# Altium schematic symbol library POWER_CONTROL.SchLib: 5 symbols
Pins are listed as number, name and electrical type; pins without a type are passive.

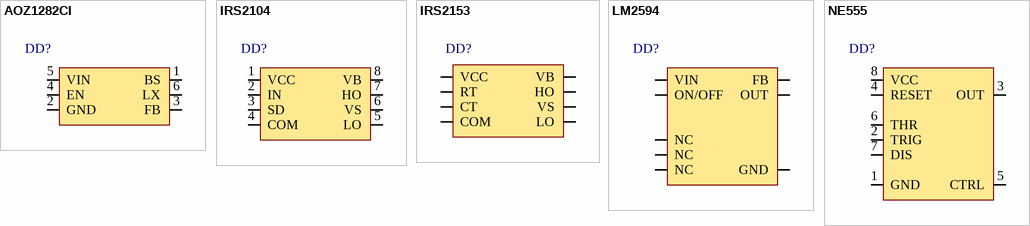
[diagram p0: symbols AOZ1282CI to NE555]

## AOZ1282CI
designator DD?
footprint SOT23-6ЗPIN (AOZ128) (SOT23, 6-Leads, Body 2,90x2,80mm, Pitch 0,95mm, IPC Medium Density)
pins: 1 BS (power), 2 GND (power), 3 FB (power), 4 EN (in), 5 VIN (power), 6 LX (power)

## IRS2104
designator DD?, comment HALF-BRIDGE DRIVER  (value not drawn)
footprint SOIC127P600X265-8N (SOIC, 8-Leads, Body 4,90x3,90mm, Pitch 1,27mm, IPC Medium Density)
pins: 1 VCC (power), 2 IN (in), 3 SD (in), 4 COM (power), 5 LO (out), 6 VS (power), 7 HO (out), 8 VB (power)

## IRS2153
designator DD?
footprint SOIC127P600X265-8N (SOIC, 8-Leads, Body 4,90x3,90mm, Pitch 1,27mm, IPC Medium Density)
pins: 1 VCC (power), 2 RT (io), 3 CT (io), 4 COM (power), 5 LO (out), 6 VS (power), 7 HO (out), 8 VB (power)

## LM2594
designator DD?  (value not drawn)
footprint SOIC127P600X265-8N (SOIC, 8-Leads, Body 4,90x3,90mm, Pitch 1,27mm, IPC Medium Density)
pins: 1 NC (power), 2 NC (power), 3 NC (power), 4 FB (power), 5 ON/OFF (power), 6 GND (power), 7 VIN (power), 8 OUT (power)

## NE555
designator DD?, comment Single Timer  (value not drawn)
footprint SOIC127P600X265-8N (SOIC, 8-Leads, Body 4,90x3,90mm, Pitch 1,27mm, IPC Medium Density)
pins: 1 GND (power), 2 TRIG (io), 3 OUT (out), 4 RESET (in), 5 CTRL (power), 6 THR (io), 7 DIS (io), 8 VCC (power)